# EAGLE library part 18F14K22 (library custom)
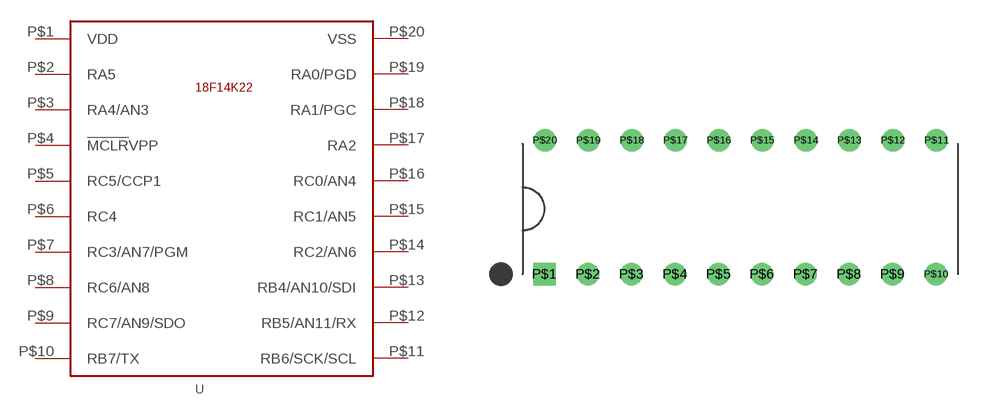
[diagram p23: symbol with the pads of DIP20; footprint DIP20]

Designator prefix U

## 18F14K22  [DIP20]
P$1  VDD
P$2  RA5
P$3  RA4/AN3
P$4  !MCLR!VPP
P$5  RC5/CCP1
P$6  RC4
P$7  RC3/AN7/PGM
P$8  RC6/AN8
P$9  RC7/AN9/SDO
P$10  RB7/TX
P$11  RB6/SCK/SCL
P$12  RB5/AN11/RX
P$13  RB4/AN10/SDI
P$14  RC2/AN6
P$15  RC1/AN5
P$16  RC0/AN4
P$17  RA2
P$18  RA1/PGC
P$19  RA0/PGD
P$20  VSS

## Footprint DIP20 (pad centres in mm)
drill 0.8 square: P$1 -11.43,-3.81
drill 0.8 round: P$2 -8.89,-3.81; P$3 -6.35,-3.81; P$4 -3.81,-3.81; P$5 -1.27,-3.81; P$6 1.27,-3.81; P$7 3.81,-3.81; P$8 6.35,-3.81; P$9 8.89,-3.81; P$10 11.43,-3.81; P$11 11.455,4.013; P$12 8.915,4.013; P$13 6.375,4.013; P$14 3.835,4.013; P$15 1.295,4.013; P$16 -1.245,4.013; P$17 -3.785,4.013; P$18 -6.325,4.013; P$19 -8.865,4.013; P$20 -11.405,4.013